# Altium footprint library PCB - CONNECTORS - MOLEX - MOLEX PICO-LOCK 5037630391.PcbLib: 1 footprints
Each footprint in its own frame and in the unit in brackets; x right, y up, seen from the top. Pads: shape width x height; smd on the part's side, far side on the other; paste and mask are expansions set on the pad; w line width, h text height; cw(c..) or ccw(c..) is an arc to the next point about the centre after c.
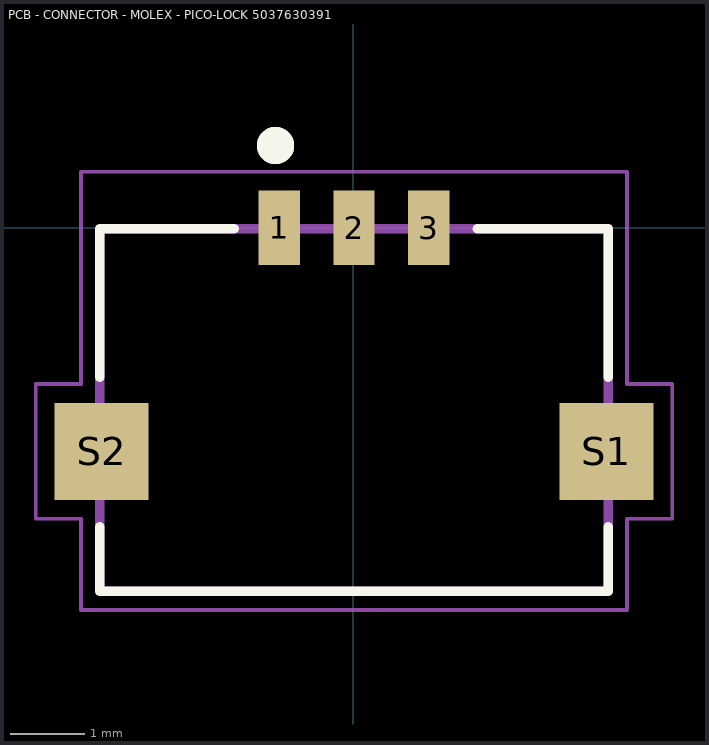
[diagram p0: the footprint, top view; thin cyan lines are the x and y axes]

## PCB - CONNECTOR - MOLEX - PICO-LOCK 5037630391 [mm]
pads (5):
  rect 0.55x1 smd: 1(-0.992,0) 2(0.008,0) 3(1.008,0)
  rect 1.26x1.3 smd: S1(3.383,-2.99) S2(-3.367,-2.99)
Top Overlay:
  circle w0.3: c-1.042,1.1 r0.1
  lines w0.127: -3.392,-4 -3.392,-4.86 3.408,-4.86 3.408,-4 ; -3.392,-2 -3.392,-0.01 -1.592,-0.01 ; 1.658,-0.01 3.408,-0.01 3.408,-2
Mechanical 13:
  circle w0.3: c-1.042,1.1 r0.1
  circle w0.3: c-1.042,1.1 r0.1
  lines w0.127: -3.392,-4.86 -3.392,-0.01 ; -3.392,-4.86 -3.392,-0.01 ; -3.392,-4.86 3.408,-4.86 3.408,-0.01 ; -3.392,-0.01 3.408,-0.01 ; -3.392,-0.01 3.408,-0.01
Mechanical 15:
  lines w0.05: -4.247,-3.89 -4.247,-2.09 -3.642,-2.09 -3.642,0.75 3.658,0.75 3.658,-2.09 4.263,-2.09 4.263,-3.89 3.658,-3.89 3.658,-5.11 -3.642,-5.11 -3.642,-3.89 -4.247,-3.89
3D body "5037630391.stp": height 1.47, standoff -0.03, extent -3.816,-4.878 3.784,0.312